# Altium schematic symbol library Reference_Voltage.SchLib: 259 symbols (part 2 of 3)
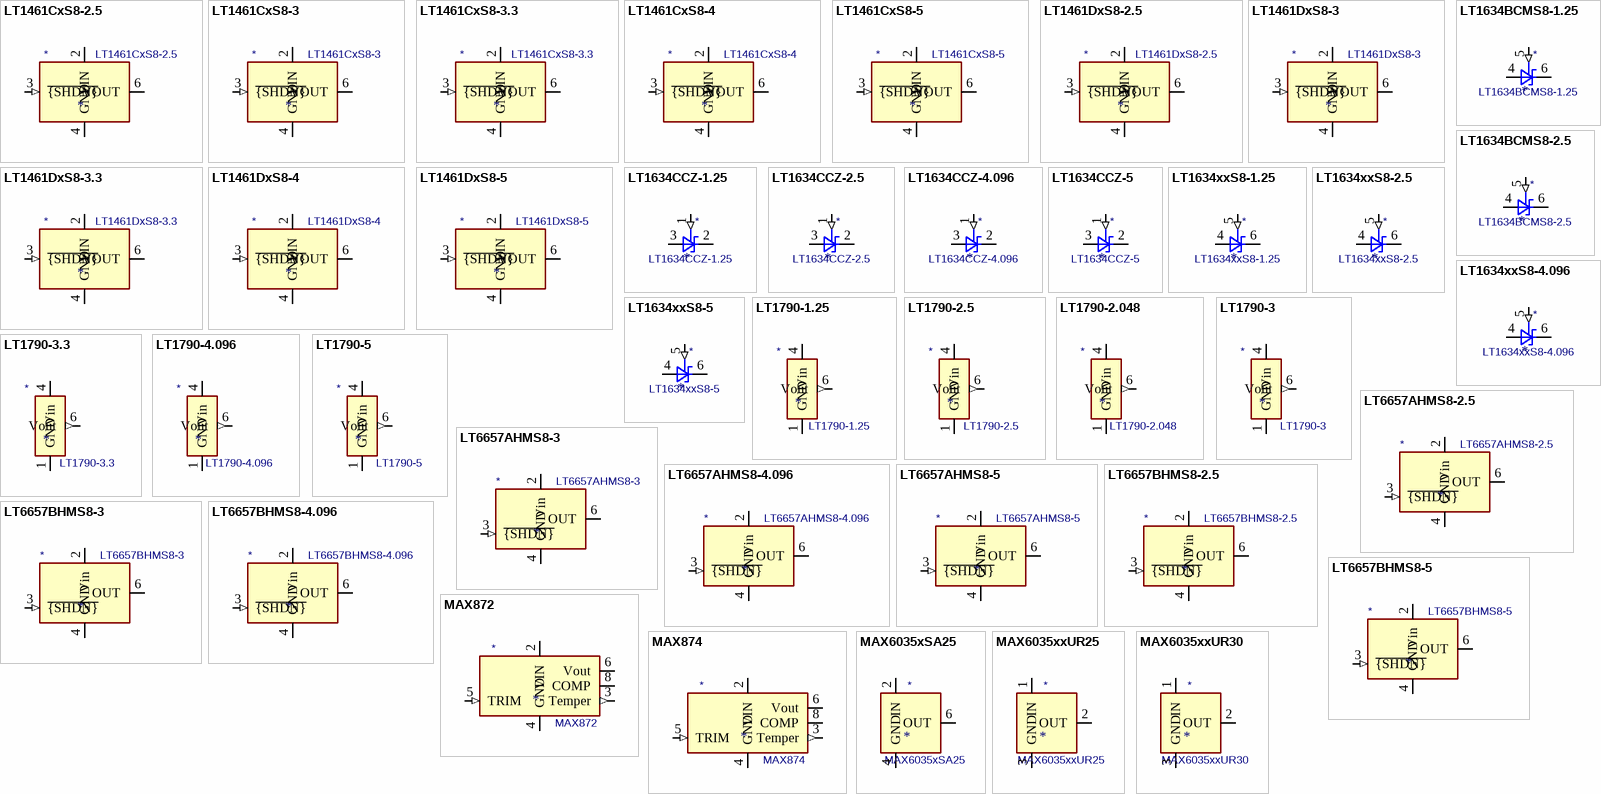
[diagram p7: symbols LT1461CxS8-2.5 to MAX6035xxUR30]

## MAX6035xSA25
designator *  value MAX6035xSA25
ki_keywords: vref; ki_description: 2.5V, High-Supply-Voltage, Precision Voltage Reference, SOIC-8; ki_fp_filters: SOIC*3.9x4.9mm*P1.27mm*; Footprint: Package_SO:SOIC-8_3.9x4.9mm_P1.27mm; Supplier: https://datasheets.maximintegrated.com/en/ds/MAX6035.pdf
footprint SOIC-8_3.9x4.9mm_P1.27mm
pins: 1 NC (in) hidden, 2 IN (power), 3 NC (in) hidden, 4 GND (power), 5 NC (in) hidden, 6 OUT (power), 7 NC (in) hidden, 8 NC (in) hidden

## MAX6035xxUR25
designator *  value MAX6035xxUR25
ki_keywords: vref; ki_description: 2.5V, High-Supply-Voltage, Precision Voltage Reference, SOT-23; ki_fp_filters: SOT?23*; Footprint: Package_TO_SOT_SMD:SOT-23; Supplier: https://datasheets.maximintegrated.com/en/ds/MAX6035.pdf
footprint SOT-23
pins: 1 IN (power), 2 OUT (power), 3 GND (power)

## MAX6035xxUR30
designator *  value MAX6035xxUR30
ki_keywords: vref; ki_description: 3V, High-Supply-Voltage, Precision Voltage Reference, SOT-23; ki_fp_filters: SOT?23*; Footprint: Package_TO_SOT_SMD:SOT-23; Supplier: https://datasheets.maximintegrated.com/en/ds/MAX6035.pdf
footprint SOT-23
pins: 1 IN (power), 2 OUT (power), 3 GND (power)

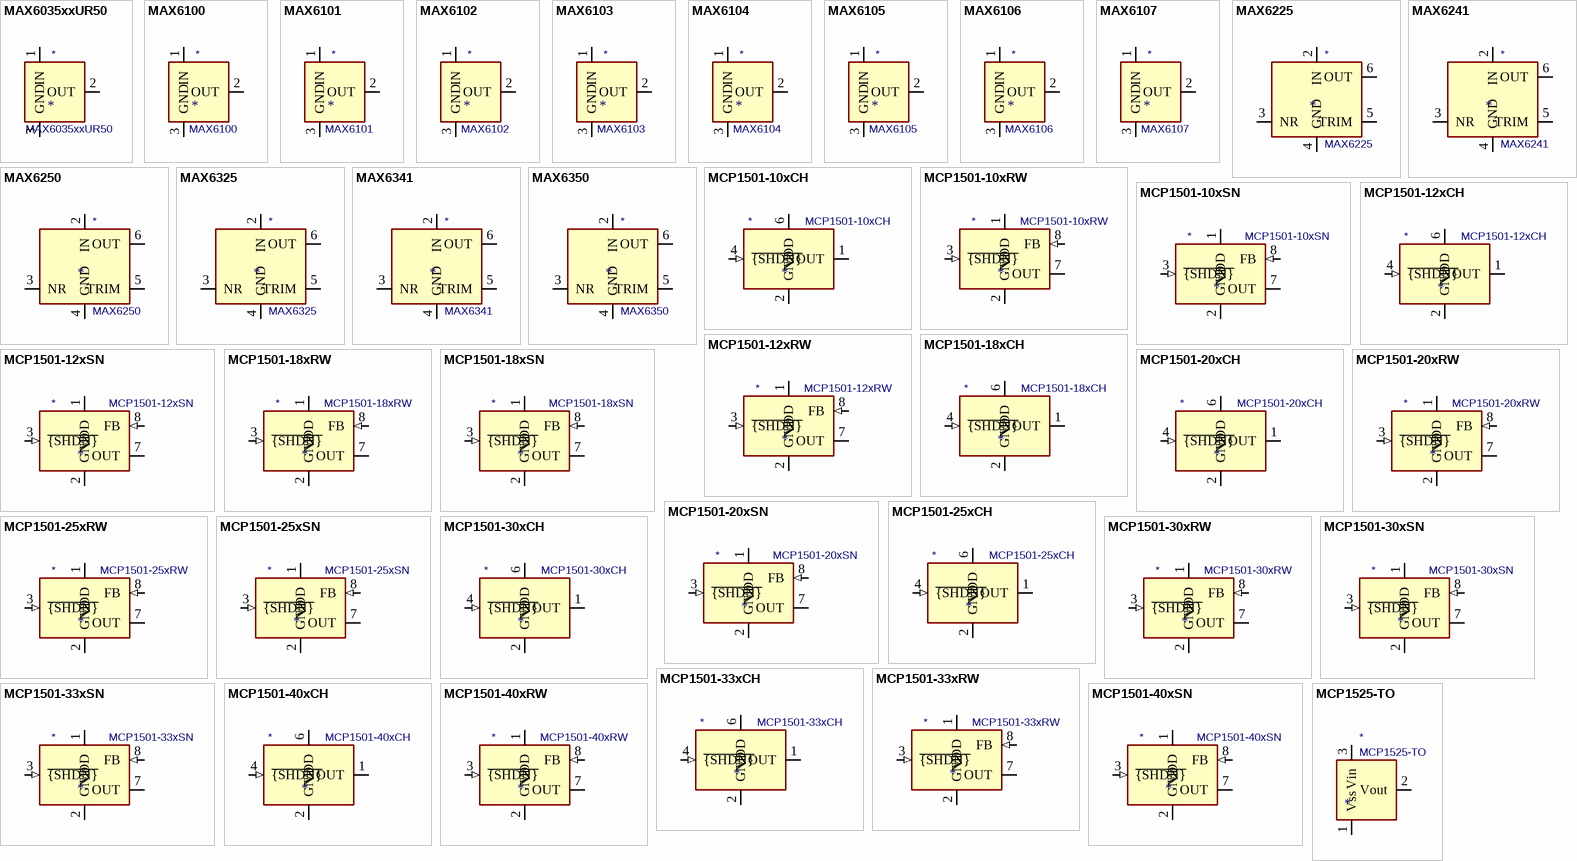
[diagram p3: symbols MAX6035xxUR50 to MCP1525-TO]

## MAX6035xxUR50
designator *  value MAX6035xxUR50
ki_keywords: vref; ki_description: 5V, High-Supply-Voltage, Precision Voltage Reference, SOT-23; ki_fp_filters: SOT?23*; Footprint: Package_TO_SOT_SMD:SOT-23; Supplier: https://datasheets.maximintegrated.com/en/ds/MAX6035.pdf
footprint SOT-23
pins: 1 IN (power), 2 OUT (power), 3 GND (power)

## MAX6100
designator *  value MAX6100
ki_keywords: voltage reference ldo; ki_description: Low-dropout high current voltage reference, 1.800V, ±0.4% accuracy, SOT-23; ki_fp_filters: SOT?23*; Footprint: Package_TO_SOT_SMD:SOT-23; Supplier: http://datasheets.maximintegrated.com/en/ds/MAX6100-MAX6107.pdf
footprint SOT-23
pins: 1 IN (power), 2 OUT (power), 3 GND (power)

## MAX6101
designator *  value MAX6101
ki_keywords: voltage reference ldo; ki_description: Low-dropout high current voltage reference, 1.250V, ±0.4% accuracy, SOT-23; ki_fp_filters: SOT?23*; Footprint: Package_TO_SOT_SMD:SOT-23; Supplier: http://datasheets.maximintegrated.com/en/ds/MAX6100-MAX6107.pdf
footprint SOT-23
pins: 1 IN (power), 2 OUT (power), 3 GND (power)

## MAX6102
designator *  value MAX6102
ki_keywords: voltage reference ldo; ki_description: Low-dropout high current voltage reference, 2.500V, ±0.4% accuracy, SOT-23; ki_fp_filters: SOT?23*; Footprint: Package_TO_SOT_SMD:SOT-23; Supplier: http://datasheets.maximintegrated.com/en/ds/MAX6100-MAX6107.pdf
footprint SOT-23
pins: 1 IN (power), 2 OUT (power), 3 GND (power)

## MAX6103
designator *  value MAX6103
ki_keywords: voltage reference ldo; ki_description: Low-dropout high current voltage reference, 3.000V, ±0.4% accuracy, SOT-23; ki_fp_filters: SOT?23*; Footprint: Package_TO_SOT_SMD:SOT-23; Supplier: http://datasheets.maximintegrated.com/en/ds/MAX6100-MAX6107.pdf
footprint SOT-23
pins: 1 IN (power), 2 OUT (power), 3 GND (power)

## MAX6104
designator *  value MAX6104
ki_keywords: voltage reference ldo; ki_description: Low-dropout high current voltage reference, 4.096V, ±0.4% accuracy, SOT-23; ki_fp_filters: SOT?23*; Footprint: Package_TO_SOT_SMD:SOT-23; Supplier: http://datasheets.maximintegrated.com/en/ds/MAX6100-MAX6107.pdf
footprint SOT-23
pins: 1 IN (power), 2 OUT (power), 3 GND (power)

## MAX6105
designator *  value MAX6105
ki_keywords: voltage reference ldo; ki_description: Low-dropout high current voltage reference, 5.000V, ±0.4% accuracy, SOT-23; ki_fp_filters: SOT?23*; Footprint: Package_TO_SOT_SMD:SOT-23; Supplier: http://datasheets.maximintegrated.com/en/ds/MAX6100-MAX6107.pdf
footprint SOT-23
pins: 1 IN (power), 2 OUT (power), 3 GND (power)

## MAX6106
designator *  value MAX6106
ki_keywords: voltage reference ldo; ki_description: Low-dropout high current voltage reference, 2.048V, ±0.4% accuracy, SOT-23; ki_fp_filters: SOT?23*; Footprint: Package_TO_SOT_SMD:SOT-23; Supplier: http://datasheets.maximintegrated.com/en/ds/MAX6100-MAX6107.pdf
footprint SOT-23
pins: 1 IN (power), 2 OUT (power), 3 GND (power)

## MAX6107
designator *  value MAX6107
ki_keywords: voltage reference ldo; ki_description: Low-dropout high current voltage reference, 4.500V, ±0.4% accuracy, SOT-23; ki_fp_filters: SOT?23*; Footprint: Package_TO_SOT_SMD:SOT-23; Supplier: http://datasheets.maximintegrated.com/en/ds/MAX6100-MAX6107.pdf
footprint SOT-23
pins: 1 IN (power), 2 OUT (power), 3 GND (power)

## MAX6225
designator *  value MAX6225
ki_keywords: precision voltage reference; ki_description: 1ppm/°C Low-Noise Precision +2.5V Voltage Reference, SO-8/DIP-8; ki_fp_filters: SOIC*P1.27mm* DIP*W7.62mm*; Supplier: http://datasheets.maximintegrated.com/en/ds/MAX6225-MAX6250.pdf
pins: 1 NC (in) hidden, 2 IN (power), 3 NR, 4 GND (power), 5 TRIM, 6 OUT (power), 7 NC (in) hidden, 8 NC (in) hidden

## MAX6241
designator *  value MAX6241
ki_keywords: precision voltage reference; ki_description: 1ppm/°C Low-Noise Precision +4.096V Voltage Reference, SO-8/DIP-8; ki_fp_filters: SOIC*P1.27mm* DIP*W7.62mm*; Supplier: http://datasheets.maximintegrated.com/en/ds/MAX6225-MAX6250.pdf
pins: 1 NC (in) hidden, 2 IN (power), 3 NR, 4 GND (power), 5 TRIM, 6 OUT (power), 7 NC (in) hidden, 8 NC (in) hidden

## MAX6250
designator *  value MAX6250
ki_keywords: precision voltage reference; ki_description: 1ppm/°C Low-Noise Precision +5V Voltage Reference, SO-8/DIP-8; ki_fp_filters: SOIC*P1.27mm* DIP*W7.62mm*; Supplier: http://datasheets.maximintegrated.com/en/ds/MAX6225-MAX6250.pdf
pins: 1 NC (in) hidden, 2 IN (power), 3 NR, 4 GND (power), 5 TRIM, 6 OUT (power), 7 NC (in) hidden, 8 NC (in) hidden

## MAX6325
designator *  value MAX6325
ki_keywords: precision voltage reference; ki_description: 0.5ppm/°C Low-Noise +2.5V Voltage Reference, SO-8/DIP-8; ki_fp_filters: SOIC*P1.27mm* DIP*W7.62mm*; Supplier: http://datasheets.maximintegrated.com/en/ds/MAX6325-MAX6350.pdf
pins: 1 NC (in) hidden, 2 IN (power), 3 NR, 4 GND (power), 5 TRIM, 6 OUT (power), 7 NC (in) hidden, 8 NC (in) hidden

## MAX6341
designator *  value MAX6341
ki_keywords: precision voltage reference; ki_description: 0.5ppm/°C Low-Noise +4.096V Voltage Reference, SO-8/DIP-8; ki_fp_filters: SOIC*P1.27mm* DIP*W7.62mm*; Supplier: http://datasheets.maximintegrated.com/en/ds/MAX6325-MAX6350.pdf
pins: 1 NC (in) hidden, 2 IN (power), 3 NR, 4 GND (power), 5 TRIM, 6 OUT (power), 7 NC (in) hidden, 8 NC (in) hidden

## MAX6350
designator *  value MAX6350
ki_keywords: precision voltage reference; ki_description: 0.5ppm/°C Low-Noise +5V Voltage Reference, SO-8/DIP-8; ki_fp_filters: SOIC*P1.27mm* DIP*W7.62mm*; Supplier: http://datasheets.maximintegrated.com/en/ds/MAX6325-MAX6350.pdf
pins: 1 NC (in) hidden, 2 IN (power), 3 NR, 4 GND (power), 5 TRIM, 6 OUT (power), 7 NC (in) hidden, 8 NC (in) hidden

## MCP1501-10xCH
designator *  value MCP1501-10xCH
ki_keywords: precision buffered voltage reference 1.024V; ki_description: 1.024V, 0.1%, 20mA, Precision Voltage Reference, SOT-23-6; ki_fp_filters: SOT?23*; Footprint: Package_TO_SOT_SMD:SOT-23-6; Supplier: http://ww1.microchip.com/downloads/en/DeviceDoc/20005474E.pdf
footprint SOT-23-6
pins: 1 OUT (power), 2 GND (power), 3 GND hidden, 4 ~{{SHDN}} (in), 5 GND hidden, 6 VDD (power)

## MCP1501-10xRW
designator *  value MCP1501-10xRW
ki_keywords: precision buffered voltage reference 1.024V; ki_description: 1.024V, 0.1%, 20mA, Precision Voltage Reference, WDFN-8; ki_fp_filters: WDFN*1EP*2x2mm*P0.5mm*; Footprint: Package_DFN_QFN:WDFN-8-1EP_2x2mm_P0.5mm_EP0.8x1.2mm; Supplier: http://ww1.microchip.com/downloads/en/DeviceDoc/20005474E.pdf
footprint WDFN-8-1EP_2x2mm_P0.5mm_EP0.8x1.2mm
pins: 1 VDD (power), 2 GND (power), 3 ~{{SHDN}} (in), 4 GND hidden, 5 GND hidden, 6 GND hidden, 7 OUT (power), 8 FB (in)

## MCP1501-10xSN
designator *  value MCP1501-10xSN
ki_keywords: precision buffered voltage reference 1.024V; ki_description: 1.024V, 0.1%, 20mA, Precision Voltage Reference, SOIC-8; ki_fp_filters: SOIC*3.9x4.9mm*P1.27mm*; Footprint: Package_SO:SOIC-8_3.9x4.9mm_P1.27mm; Supplier: http://ww1.microchip.com/downloads/en/DeviceDoc/20005474E.pdf
footprint SOIC-8_3.9x4.9mm_P1.27mm
pins: 1 VDD (power), 2 GND (power), 3 ~{{SHDN}} (in), 4 GND hidden, 5 GND hidden, 6 GND hidden, 7 OUT (power), 8 FB (in)

## MCP1501-12xCH
designator *  value MCP1501-12xCH
ki_keywords: precision buffered voltage reference 1.25V; ki_description: 1.25V, 0.1%, 20mA, Precision Voltage Reference, SOT-23-6; ki_fp_filters: SOT?23*; Footprint: Package_TO_SOT_SMD:SOT-23-6; Supplier: http://ww1.microchip.com/downloads/en/DeviceDoc/20005474E.pdf
footprint SOT-23-6
pins: 1 OUT (power), 2 GND (power), 3 GND hidden, 4 ~{{SHDN}} (in), 5 GND hidden, 6 VDD (power)

## MCP1501-12xRW
designator *  value MCP1501-12xRW
ki_keywords: precision buffered voltage reference 1.25V; ki_description: 1.25V, 0.1%, 20mA, Precision Voltage Reference, WDFN-8; ki_fp_filters: WDFN*1EP*2x2mm*P0.5mm*; Footprint: Package_DFN_QFN:WDFN-8-1EP_2x2mm_P0.5mm_EP0.8x1.2mm; Supplier: http://ww1.microchip.com/downloads/en/DeviceDoc/20005474E.pdf
footprint WDFN-8-1EP_2x2mm_P0.5mm_EP0.8x1.2mm
pins: 1 VDD (power), 2 GND (power), 3 ~{{SHDN}} (in), 4 GND hidden, 5 GND hidden, 6 GND hidden, 7 OUT (power), 8 FB (in)

## MCP1501-12xSN
designator *  value MCP1501-12xSN
ki_keywords: precision buffered voltage reference 1.25V; ki_description: 1.25V, 0.1%, 20mA, Precision Voltage Reference, SOIC-8; ki_fp_filters: SOIC*3.9x4.9mm*P1.27mm*; Footprint: Package_SO:SOIC-8_3.9x4.9mm_P1.27mm; Supplier: http://ww1.microchip.com/downloads/en/DeviceDoc/20005474E.pdf
footprint SOIC-8_3.9x4.9mm_P1.27mm
pins: 1 VDD (power), 2 GND (power), 3 ~{{SHDN}} (in), 4 GND hidden, 5 GND hidden, 6 GND hidden, 7 OUT (power), 8 FB (in)

## MCP1501-18xCH
designator *  value MCP1501-18xCH
ki_keywords: precision buffered voltage reference 1.8V; ki_description: 1.8V, 0.1%, 20mA, Precision Voltage Reference, SOT-23-6; ki_fp_filters: SOT?23*; Footprint: Package_TO_SOT_SMD:SOT-23-6; Supplier: http://ww1.microchip.com/downloads/en/DeviceDoc/20005474E.pdf
footprint SOT-23-6
pins: 1 OUT (power), 2 GND (power), 3 GND hidden, 4 ~{{SHDN}} (in), 5 GND hidden, 6 VDD (power)

## MCP1501-18xRW
designator *  value MCP1501-18xRW
ki_keywords: precision buffered voltage reference 1.8V; ki_description: 1.8V, 0.1%, 20mA, Precision Voltage Reference, WDFN-8; ki_fp_filters: WDFN*1EP*2x2mm*P0.5mm*; Footprint: Package_DFN_QFN:WDFN-8-1EP_2x2mm_P0.5mm_EP0.8x1.2mm; Supplier: http://ww1.microchip.com/downloads/en/DeviceDoc/20005474E.pdf
footprint WDFN-8-1EP_2x2mm_P0.5mm_EP0.8x1.2mm
pins: 1 VDD (power), 2 GND (power), 3 ~{{SHDN}} (in), 4 GND hidden, 5 GND hidden, 6 GND hidden, 7 OUT (power), 8 FB (in)

## MCP1501-18xSN
designator *  value MCP1501-18xSN
ki_keywords: precision buffered voltage reference 1.8V; ki_description: 1.8V, 0.1%, 20mA, Precision Voltage Reference, SOIC-8; ki_fp_filters: SOIC*3.9x4.9mm*P1.27mm*; Footprint: Package_SO:SOIC-8_3.9x4.9mm_P1.27mm; Supplier: http://ww1.microchip.com/downloads/en/DeviceDoc/20005474E.pdf
footprint SOIC-8_3.9x4.9mm_P1.27mm
pins: 1 VDD (power), 2 GND (power), 3 ~{{SHDN}} (in), 4 GND hidden, 5 GND hidden, 6 GND hidden, 7 OUT (power), 8 FB (in)

## MCP1501-20xCH
designator *  value MCP1501-20xCH
ki_keywords: precision buffered voltage reference 2.048V; ki_description: 2.048V, 0.1%, 20mA, Precision Voltage Reference, SOT-23-6; ki_fp_filters: SOT?23*; Footprint: Package_TO_SOT_SMD:SOT-23-6; Supplier: http://ww1.microchip.com/downloads/en/DeviceDoc/20005474E.pdf
footprint SOT-23-6
pins: 1 OUT (power), 2 GND (power), 3 GND hidden, 4 ~{{SHDN}} (in), 5 GND hidden, 6 VDD (power)

## MCP1501-20xRW
designator *  value MCP1501-20xRW
ki_keywords: precision buffered voltage reference 2.048V; ki_description: 2.048V, 0.1%, 20mA, Precision Voltage Reference, WDFN-8; ki_fp_filters: WDFN*1EP*2x2mm*P0.5mm*; Footprint: Package_DFN_QFN:WDFN-8-1EP_2x2mm_P0.5mm_EP0.8x1.2mm; Supplier: http://ww1.microchip.com/downloads/en/DeviceDoc/20005474E.pdf
footprint WDFN-8-1EP_2x2mm_P0.5mm_EP0.8x1.2mm
pins: 1 VDD (power), 2 GND (power), 3 ~{{SHDN}} (in), 4 GND hidden, 5 GND hidden, 6 GND hidden, 7 OUT (power), 8 FB (in)

## MCP1501-20xSN
designator *  value MCP1501-20xSN
ki_keywords: precision buffered voltage reference 2.048V; ki_description: 2.048V, 0.1%, 20mA, Precision Voltage Reference, SOIC-8; ki_fp_filters: SOIC*3.9x4.9mm*P1.27mm*; Footprint: Package_SO:SOIC-8_3.9x4.9mm_P1.27mm; Supplier: http://ww1.microchip.com/downloads/en/DeviceDoc/20005474E.pdf
footprint SOIC-8_3.9x4.9mm_P1.27mm
pins: 1 VDD (power), 2 GND (power), 3 ~{{SHDN}} (in), 4 GND hidden, 5 GND hidden, 6 GND hidden, 7 OUT (power), 8 FB (in)

## MCP1501-25xCH
designator *  value MCP1501-25xCH
ki_keywords: precision buffered voltage reference 2.5V; ki_description: 2.5V, 0.1%, 20mA, Precision Voltage Reference, SOT-23-6; ki_fp_filters: SOT?23*; Footprint: Package_TO_SOT_SMD:SOT-23-6; Supplier: http://ww1.microchip.com/downloads/en/DeviceDoc/20005474E.pdf
footprint SOT-23-6
pins: 1 OUT (power), 2 GND (power), 3 GND hidden, 4 ~{{SHDN}} (in), 5 GND hidden, 6 VDD (power)

## MCP1501-25xRW
designator *  value MCP1501-25xRW
ki_keywords: precision buffered voltage reference 2.5V; ki_description: 2.5V, 0.1%, 20mA, Precision Voltage Reference, WDFN-8; ki_fp_filters: WDFN*1EP*2x2mm*P0.5mm*; Footprint: Package_DFN_QFN:WDFN-8-1EP_2x2mm_P0.5mm_EP0.8x1.2mm; Supplier: http://ww1.microchip.com/downloads/en/DeviceDoc/20005474E.pdf
footprint WDFN-8-1EP_2x2mm_P0.5mm_EP0.8x1.2mm
pins: 1 VDD (power), 2 GND (power), 3 ~{{SHDN}} (in), 4 GND hidden, 5 GND hidden, 6 GND hidden, 7 OUT (power), 8 FB (in)

## MCP1501-25xSN
designator *  value MCP1501-25xSN
ki_keywords: precision buffered voltage reference 2.5V; ki_description: 2.5V, 0.1%, 20mA, Precision Voltage Reference, SOIC-8; ki_fp_filters: SOIC*3.9x4.9mm*P1.27mm*; Footprint: Package_SO:SOIC-8_3.9x4.9mm_P1.27mm; Supplier: http://ww1.microchip.com/downloads/en/DeviceDoc/20005474E.pdf
footprint SOIC-8_3.9x4.9mm_P1.27mm
pins: 1 VDD (power), 2 GND (power), 3 ~{{SHDN}} (in), 4 GND hidden, 5 GND hidden, 6 GND hidden, 7 OUT (power), 8 FB (in)

## MCP1501-30xCH
designator *  value MCP1501-30xCH
ki_keywords: precision buffered voltage reference 3V; ki_description: 3V, 0.1%, 20mA, Precision Voltage Reference, SOT-23-6; ki_fp_filters: SOT?23*; Footprint: Package_TO_SOT_SMD:SOT-23-6; Supplier: http://ww1.microchip.com/downloads/en/DeviceDoc/20005474E.pdf
footprint SOT-23-6
pins: 1 OUT (power), 2 GND (power), 3 GND hidden, 4 ~{{SHDN}} (in), 5 GND hidden, 6 VDD (power)

## MCP1501-30xRW
designator *  value MCP1501-30xRW
ki_keywords: precision buffered voltage reference 3V; ki_description: 3V, 0.1%, 20mA, Precision Voltage Reference, WDFN-8; ki_fp_filters: WDFN*1EP*2x2mm*P0.5mm*; Footprint: Package_DFN_QFN:WDFN-8-1EP_2x2mm_P0.5mm_EP0.8x1.2mm; Supplier: http://ww1.microchip.com/downloads/en/DeviceDoc/20005474E.pdf
footprint WDFN-8-1EP_2x2mm_P0.5mm_EP0.8x1.2mm
pins: 1 VDD (power), 2 GND (power), 3 ~{{SHDN}} (in), 4 GND hidden, 5 GND hidden, 6 GND hidden, 7 OUT (power), 8 FB (in)

## MCP1501-30xSN
designator *  value MCP1501-30xSN
ki_keywords: precision buffered voltage reference 3V; ki_description: 3V, 0.1%, 20mA, Precision Voltage Reference, SOIC-8; ki_fp_filters: SOIC*3.9x4.9mm*P1.27mm*; Footprint: Package_SO:SOIC-8_3.9x4.9mm_P1.27mm; Supplier: http://ww1.microchip.com/downloads/en/DeviceDoc/20005474E.pdf
footprint SOIC-8_3.9x4.9mm_P1.27mm
pins: 1 VDD (power), 2 GND (power), 3 ~{{SHDN}} (in), 4 GND hidden, 5 GND hidden, 6 GND hidden, 7 OUT (power), 8 FB (in)

## MCP1501-33xCH
designator *  value MCP1501-33xCH
ki_keywords: precision buffered voltage reference 3.3V; ki_description: 3.3V, 0.1%, 20mA, Precision Voltage Reference, SOT-23-6; ki_fp_filters: SOT?23*; Footprint: Package_TO_SOT_SMD:SOT-23-6; Supplier: http://ww1.microchip.com/downloads/en/DeviceDoc/20005474E.pdf
footprint SOT-23-6
pins: 1 OUT (power), 2 GND (power), 3 GND hidden, 4 ~{{SHDN}} (in), 5 GND hidden, 6 VDD (power)

## MCP1501-33xRW
designator *  value MCP1501-33xRW
ki_keywords: precision buffered voltage reference 3.3V; ki_description: 3.3V, 0.1%, 20mA, Precision Voltage Reference, WDFN-8; ki_fp_filters: WDFN*1EP*2x2mm*P0.5mm*; Footprint: Package_DFN_QFN:WDFN-8-1EP_2x2mm_P0.5mm_EP0.8x1.2mm; Supplier: http://ww1.microchip.com/downloads/en/DeviceDoc/20005474E.pdf
footprint WDFN-8-1EP_2x2mm_P0.5mm_EP0.8x1.2mm
pins: 1 VDD (power), 2 GND (power), 3 ~{{SHDN}} (in), 4 GND hidden, 5 GND hidden, 6 GND hidden, 7 OUT (power), 8 FB (in)

## MCP1501-33xSN
designator *  value MCP1501-33xSN
ki_keywords: precision buffered voltage reference 3.3V; ki_description: 3.3V, 0.1%, 20mA, Precision Voltage Reference, SOIC-8; ki_fp_filters: SOIC*3.9x4.9mm*P1.27mm*; Footprint: Package_SO:SOIC-8_3.9x4.9mm_P1.27mm; Supplier: http://ww1.microchip.com/downloads/en/DeviceDoc/20005474E.pdf
footprint SOIC-8_3.9x4.9mm_P1.27mm
pins: 1 VDD (power), 2 GND (power), 3 ~{{SHDN}} (in), 4 GND hidden, 5 GND hidden, 6 GND hidden, 7 OUT (power), 8 FB (in)

## MCP1501-40xCH
designator *  value MCP1501-40xCH
ki_keywords: precision buffered voltage reference 4.096V; ki_description: 4.096V, 0.1%, 20mA, Precision Voltage Reference, SOT-23-6; ki_fp_filters: SOT?23*; Footprint: Package_TO_SOT_SMD:SOT-23-6; Supplier: http://ww1.microchip.com/downloads/en/DeviceDoc/20005474E.pdf
footprint SOT-23-6
pins: 1 OUT (power), 2 GND (power), 3 GND hidden, 4 ~{{SHDN}} (in), 5 GND hidden, 6 VDD (power)

## MCP1501-40xRW
designator *  value MCP1501-40xRW
ki_keywords: precision buffered voltage reference 4.096V; ki_description: 4.096V, 0.1%, 20mA, Precision Voltage Reference, WDFN-8; ki_fp_filters: WDFN*1EP*2x2mm*P0.5mm*; Footprint: Package_DFN_QFN:WDFN-8-1EP_2x2mm_P0.5mm_EP0.8x1.2mm; Supplier: http://ww1.microchip.com/downloads/en/DeviceDoc/20005474E.pdf
footprint WDFN-8-1EP_2x2mm_P0.5mm_EP0.8x1.2mm
pins: 1 VDD (power), 2 GND (power), 3 ~{{SHDN}} (in), 4 GND hidden, 5 GND hidden, 6 GND hidden, 7 OUT (power), 8 FB (in)

## MCP1501-40xSN
designator *  value MCP1501-40xSN
ki_keywords: precision buffered voltage reference 4.096V; ki_description: 4.096V, 0.1%, 20mA, Precision Voltage Reference, SOIC-8; ki_fp_filters: SOIC*3.9x4.9mm*P1.27mm*; Footprint: Package_SO:SOIC-8_3.9x4.9mm_P1.27mm; Supplier: http://ww1.microchip.com/downloads/en/DeviceDoc/20005474E.pdf
footprint SOIC-8_3.9x4.9mm_P1.27mm
pins: 1 VDD (power), 2 GND (power), 3 ~{{SHDN}} (in), 4 GND hidden, 5 GND hidden, 6 GND hidden, 7 OUT (power), 8 FB (in)

## MCP1525-TO
designator *  value MCP1525-TO
ki_keywords: Voltage Reference 2.5V; ki_description: 2.5V Voltage Reference, TO-92; ki_fp_filters: TO*92*; Footprint: Package_TO_SOT_THT:TO-92_Inline; Supplier: http://ww1.microchip.com/downloads/en/devicedoc/21653b.pdf
footprint TO-92_Inline
pins: 1 Vss (power), 2 Vout (power), 3 Vin (power)

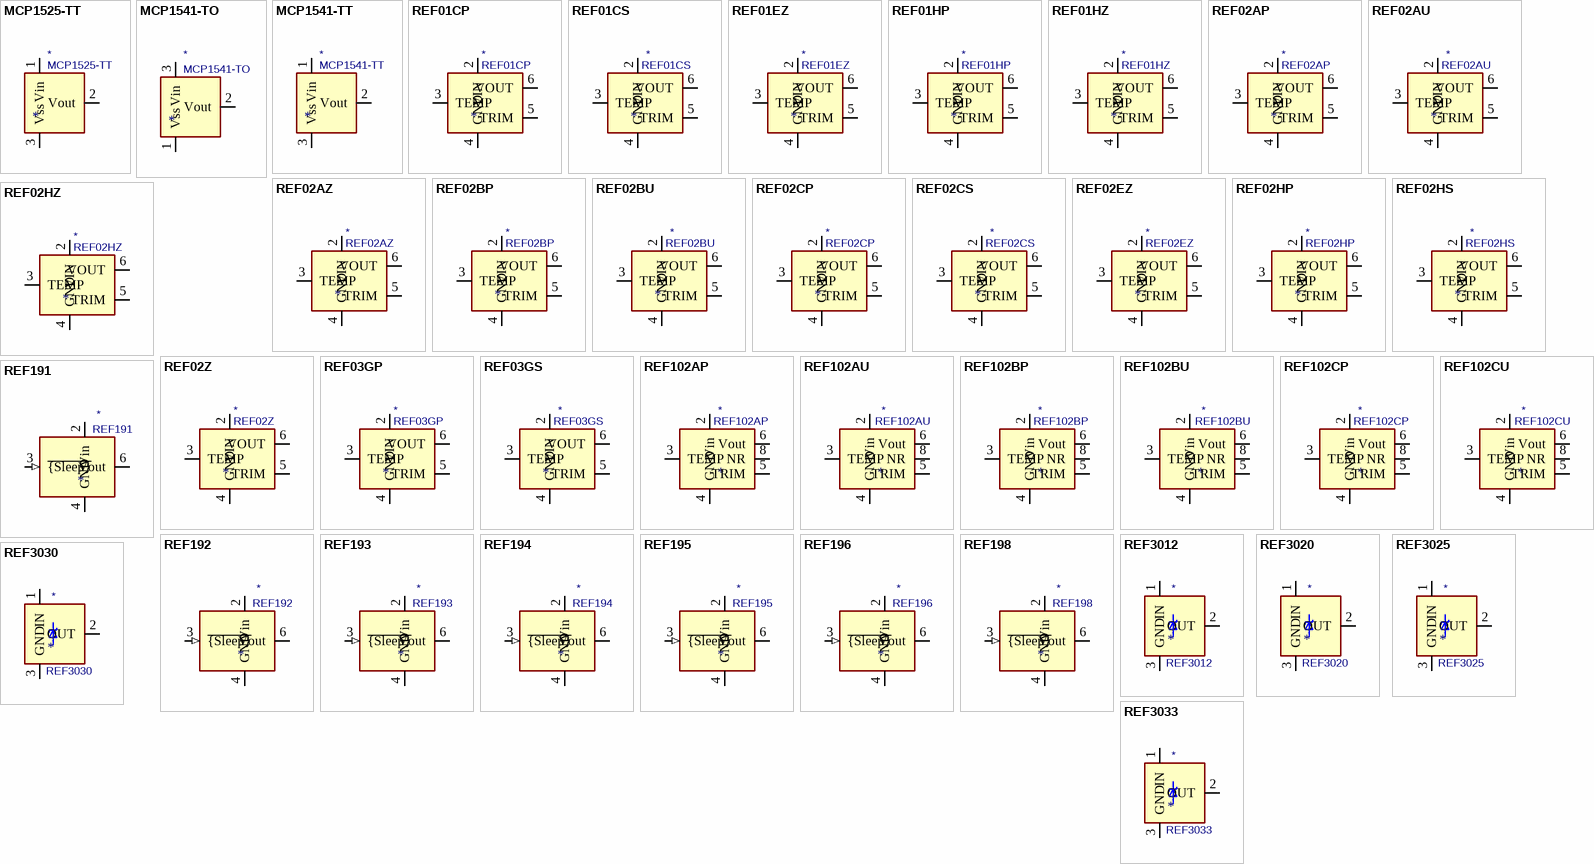
[diagram p4: symbols MCP1525-TT to REF3033]

## MCP1525-TT
designator *  value MCP1525-TT
ki_keywords: Voltage Reference 2.5V; ki_description: 2.5V Voltage Reference, SOT-23; ki_fp_filters: SOT?23*; Footprint: Package_TO_SOT_SMD:SOT-23; Supplier: http://ww1.microchip.com/downloads/en/devicedoc/21653b.pdf
footprint SOT-23
pins: 1 Vin (power), 2 Vout (power), 3 Vss (power)

## MCP1541-TO
designator *  value MCP1541-TO
ki_keywords: Voltage Reference 4.096V; ki_description: 4.096V Voltage Reference, TO-92; ki_fp_filters: TO*92*; Footprint: Package_TO_SOT_THT:TO-92_Inline; Supplier: http://ww1.microchip.com/downloads/en/devicedoc/21653b.pdf
footprint TO-92_Inline
pins: 1 Vss (power), 2 Vout (power), 3 Vin (power)

## MCP1541-TT
designator *  value MCP1541-TT
ki_keywords: Voltage Reference 4.096V; ki_description: 4.096V Voltage Reference, SOT-23; ki_fp_filters: SOT?23*; Footprint: Package_TO_SOT_SMD:SOT-23; Supplier: http://ww1.microchip.com/downloads/en/devicedoc/21653b.pdf
footprint SOT-23
pins: 1 Vin (power), 2 Vout (power), 3 Vss (power)

## REF01CP
designator *  value REF01CP
ki_keywords: Precision Voltage Reference 10V; ki_description: 10V ±100mV Precision Voltage Reference, PDIP-8; ki_fp_filters: DIP*W7.62mm*; Footprint: Package_DIP:DIP-8_W7.62mm; Supplier: https://www.analog.com/media/en/technical-documentation/data-sheets/REF01_02_03.pdf
footprint DIP-8_W7.62mm
pins: 1 NC (in) hidden, 2 VIN (power), 3 TEMP, 4 GND (power), 5 TRIM, 6 VOUT (power), 7 NC (in) hidden, 8 NC (in) hidden

## REF01CS
designator *  value REF01CS
ki_keywords: Precision Voltage Reference 10V; ki_description: 10V ±100mV Precision Voltage Reference, SO-8; ki_fp_filters: SOIC*3.9x4.9mm*P1.27mm*; Footprint: Package_SO:SOIC-8_3.9x4.9mm_P1.27mm; Supplier: https://www.analog.com/media/en/technical-documentation/data-sheets/REF01_02_03.pdf
footprint SOIC-8_3.9x4.9mm_P1.27mm
pins: 1 NC (in) hidden, 2 VIN (power), 3 TEMP, 4 GND (power), 5 TRIM, 6 VOUT (power), 7 NC (in) hidden, 8 NC (in) hidden

## REF01EZ
designator *  value REF01EZ
ki_keywords: Precision Voltage Reference 10V; ki_description: 10V ±30mV Precision Voltage Reference, CERDIP-8; ki_fp_filters: DIP*W7.62mm*; Footprint: Package_DIP:DIP-8_W7.62mm; Supplier: https://www.analog.com/media/en/technical-documentation/data-sheets/REF01_02_03.pdf
footprint DIP-8_W7.62mm
pins: 1 NC (in) hidden, 2 VIN (power), 3 TEMP, 4 GND (power), 5 TRIM, 6 VOUT (power), 7 NC (in) hidden, 8 NC (in) hidden

## REF01HP
designator *  value REF01HP
ki_keywords: Precision Voltage Reference 10V; ki_description: 10V ±50mV Precision Voltage Reference, PDIP-8; ki_fp_filters: DIP*W7.62mm*; Footprint: Package_DIP:DIP-8_W7.62mm; Supplier: https://www.analog.com/media/en/technical-documentation/data-sheets/REF01_02_03.pdf
footprint DIP-8_W7.62mm
pins: 1 NC (in) hidden, 2 VIN (power), 3 TEMP, 4 GND (power), 5 TRIM, 6 VOUT (power), 7 NC (in) hidden, 8 NC (in) hidden

## REF01HZ
designator *  value REF01HZ
ki_keywords: Precision Voltage Reference 10V; ki_description: 10V ±50mV Precision Voltage Reference, CERDIP-8; ki_fp_filters: DIP*W7.62mm*; Footprint: Package_DIP:DIP-8_W7.62mm; Supplier: https://www.analog.com/media/en/technical-documentation/data-sheets/REF01_02_03.pdf
footprint DIP-8_W7.62mm
pins: 1 NC (in) hidden, 2 VIN (power), 3 TEMP, 4 GND (power), 5 TRIM, 6 VOUT (power), 7 NC (in) hidden, 8 NC (in) hidden

## REF02AP
designator *  value REF02AP
ki_keywords: Precision Voltage Reference 5V; ki_description: 5V ±15mV Precision Voltage Reference, PDIP-8; ki_fp_filters: DIP*W7.62mm*; Footprint: Package_DIP:DIP-8_W7.62mm; Supplier: http://www.ti.com/lit/ds/symlink/ref02.pdf
footprint DIP-8_W7.62mm
pins: 1 NC (in) hidden, 2 VIN (power), 3 TEMP, 4 GND (power), 5 TRIM, 6 VOUT (power), 7 NC (in) hidden, 8 NC (in) hidden

## REF02AU
designator *  value REF02AU
ki_keywords: Precision Voltage Reference 5V; ki_description: 5V ±15mV Precision Voltage Reference, SO-8; ki_fp_filters: SOIC*3.9x4.9mm*P1.27mm*; Footprint: Package_SO:SOIC-8_3.9x4.9mm_P1.27mm; Supplier: http://www.ti.com/lit/ds/symlink/ref02.pdf
footprint SOIC-8_3.9x4.9mm_P1.27mm
pins: 1 NC (in) hidden, 2 VIN (power), 3 TEMP, 4 GND (power), 5 TRIM, 6 VOUT (power), 7 NC (in) hidden, 8 NC (in) hidden

## REF02AZ
designator *  value REF02AZ
ki_keywords: Precision Voltage Reference 5V; ki_description: 5V ±15mV Precision Voltage Reference, CERDIP-8; ki_fp_filters: DIP*W7.62mm*; Footprint: Package_DIP:DIP-8_W7.62mm; Supplier: https://www.analog.com/media/en/technical-documentation/data-sheets/REF01_02_03.pdf
footprint DIP-8_W7.62mm
pins: 1 NC (in) hidden, 2 VIN (power), 3 TEMP, 4 GND (power), 5 TRIM, 6 VOUT (power), 7 NC (in) hidden, 8 NC (in) hidden

## REF02BP
designator *  value REF02BP
ki_keywords: Precision Voltage Reference 5V; ki_description: 5V ±10mV Precision Voltage Reference, PDIP-8; ki_fp_filters: DIP*W7.62mm*; Footprint: Package_DIP:DIP-8_W7.62mm; Supplier: http://www.ti.com/lit/ds/symlink/ref02.pdf
footprint DIP-8_W7.62mm
pins: 1 NC (in) hidden, 2 VIN (power), 3 TEMP, 4 GND (power), 5 TRIM, 6 VOUT (power), 7 NC (in) hidden, 8 NC (in) hidden

## REF02BU
designator *  value REF02BU
ki_keywords: Precision Voltage Reference 5V; ki_description: 5V ±10mV Precision Voltage Reference, SO-8; ki_fp_filters: SOIC*3.9x4.9mm*P1.27mm*; Footprint: Package_SO:SOIC-8_3.9x4.9mm_P1.27mm; Supplier: http://www.ti.com/lit/ds/symlink/ref02.pdf
footprint SOIC-8_3.9x4.9mm_P1.27mm
pins: 1 NC (in) hidden, 2 VIN (power), 3 TEMP, 4 GND (power), 5 TRIM, 6 VOUT (power), 7 NC (in) hidden, 8 NC (in) hidden

## REF02CP
designator *  value REF02CP
ki_keywords: Precision Voltage Reference 5V; ki_description: 5V ±50mV Precision Voltage Reference, PDIP-8; ki_fp_filters: DIP*W7.62mm*; Footprint: Package_DIP:DIP-8_W7.62mm; Supplier: https://www.analog.com/media/en/technical-documentation/data-sheets/REF01_02_03.pdf
footprint DIP-8_W7.62mm
pins: 1 NC (in) hidden, 2 VIN (power), 3 TEMP, 4 GND (power), 5 TRIM, 6 VOUT (power), 7 NC (in) hidden, 8 NC (in) hidden

## REF02CS
designator *  value REF02CS
ki_keywords: Precision Voltage Reference 5V; ki_description: 5V ±50mV Precision Voltage Reference, SO-8; ki_fp_filters: SOIC*3.9x4.9mm*P1.27mm*; Footprint: Package_SO:SOIC-8_3.9x4.9mm_P1.27mm; Supplier: https://www.analog.com/media/en/technical-documentation/data-sheets/REF01_02_03.pdf
footprint SOIC-8_3.9x4.9mm_P1.27mm
pins: 1 NC (in) hidden, 2 VIN (power), 3 TEMP, 4 GND (power), 5 TRIM, 6 VOUT (power), 7 NC (in) hidden, 8 NC (in) hidden

## REF02EZ
designator *  value REF02EZ
ki_keywords: Precision Voltage Reference 5V; ki_description: 5V ±15mV Precision Voltage Reference, CERDIP-8; ki_fp_filters: DIP*W7.62mm*; Footprint: Package_DIP:DIP-8_W7.62mm; Supplier: https://www.analog.com/media/en/technical-documentation/data-sheets/REF01_02_03.pdf
footprint DIP-8_W7.62mm
pins: 1 NC (in) hidden, 2 VIN (power), 3 TEMP, 4 GND (power), 5 TRIM, 6 VOUT (power), 7 NC (in) hidden, 8 NC (in) hidden

## REF02HP
designator *  value REF02HP
ki_keywords: Precision Voltage Reference 5V; ki_description: 5V ±25mV Precision Voltage Reference, PDIP-8; ki_fp_filters: DIP*W7.62mm*; Footprint: Package_DIP:DIP-8_W7.62mm; Supplier: https://www.analog.com/media/en/technical-documentation/data-sheets/REF01_02_03.pdf
footprint DIP-8_W7.62mm
pins: 1 NC (in) hidden, 2 VIN (power), 3 TEMP, 4 GND (power), 5 TRIM, 6 VOUT (power), 7 NC (in) hidden, 8 NC (in) hidden

## REF02HS
designator *  value REF02HS
ki_keywords: Precision Voltage Reference 5V; ki_description: 5V ±25mV Precision Voltage Reference, SO-8; ki_fp_filters: SOIC*3.9x4.9mm*P1.27mm*; Footprint: Package_SO:SOIC-8_3.9x4.9mm_P1.27mm; Supplier: https://www.analog.com/media/en/technical-documentation/data-sheets/REF01_02_03.pdf
footprint SOIC-8_3.9x4.9mm_P1.27mm
pins: 1 NC (in) hidden, 2 VIN (power), 3 TEMP, 4 GND (power), 5 TRIM, 6 VOUT (power), 7 NC (in) hidden, 8 NC (in) hidden

## REF02HZ
designator *  value REF02HZ
ki_keywords: Precision Voltage Reference 5V; ki_description: 5V ±25mV Precision Voltage Reference, CERDIP-8; ki_fp_filters: DIP*W7.62mm*; Footprint: Package_DIP:DIP-8_W7.62mm; Supplier: https://www.analog.com/media/en/technical-documentation/data-sheets/REF01_02_03.pdf
footprint DIP-8_W7.62mm
pins: 1 NC (in) hidden, 2 VIN (power), 3 TEMP, 4 GND (power), 5 TRIM, 6 VOUT (power), 7 NC (in) hidden, 8 NC (in) hidden

## REF02Z
designator *  value REF02Z
ki_keywords: Precision Voltage Reference 5V; ki_description: 5V ±25mV Precision Voltage Reference, CERDIP-8; ki_fp_filters: DIP*W7.62mm*; Footprint: Package_DIP:DIP-8_W7.62mm; Supplier: https://www.analog.com/media/en/technical-documentation/data-sheets/REF01_02_03.pdf
footprint DIP-8_W7.62mm
pins: 1 NC (in) hidden, 2 VIN (power), 3 TEMP, 4 GND (power), 5 TRIM, 6 VOUT (power), 7 NC (in) hidden, 8 NC (in) hidden

## REF03GP
designator *  value REF03GP
ki_keywords: Precision Voltage Reference 2.5V; ki_description: 2.5V ±15mV Precision Voltage Reference, PDIP-8; ki_fp_filters: DIP*W7.62mm*; Footprint: Package_DIP:DIP-8_W7.62mm; Supplier: https://www.analog.com/media/en/technical-documentation/data-sheets/REF01_02_03.pdf
footprint DIP-8_W7.62mm
pins: 1 NC (in) hidden, 2 VIN (power), 3 TEMP, 4 GND (power), 5 TRIM, 6 VOUT (power), 7 NC (in) hidden, 8 NC (in) hidden

## REF03GS
designator *  value REF03GS
ki_keywords: Precision Voltage Reference 2.5V; ki_description: 2.5V ±15mV Precision Voltage Reference, SO-8; ki_fp_filters: SOIC*3.9x4.9mm*P1.27mm*; Footprint: Package_SO:SOIC-8_3.9x4.9mm_P1.27mm; Supplier: https://www.analog.com/media/en/technical-documentation/data-sheets/REF01_02_03.pdf
footprint SOIC-8_3.9x4.9mm_P1.27mm
pins: 1 NC (in) hidden, 2 VIN (power), 3 TEMP, 4 GND (power), 5 TRIM, 6 VOUT (power), 7 NC (in) hidden, 8 NC (in) hidden

## REF102AP
designator *  value REF102AP
ki_keywords: Precision Voltage Reference 10V; ki_description: 10V ±10mV Precision Voltage Reference, PDIP-8; ki_fp_filters: DIP*W7.62mm*; Footprint: Package_DIP:DIP-8_W7.62mm; Supplier: http://www.ti.com/lit/ds/symlink/ref102.pdf
footprint DIP-8_W7.62mm
pins: 1 NC (in) hidden, 2 Vin (power), 3 TEMP, 4 GND (power), 5 TRIM, 6 Vout (power), 7 NC (in) hidden, 8 NR

## REF102AU
designator *  value REF102AU
ki_keywords: Precision Voltage Reference 10V; ki_description: 10V ±10mV Precision Voltage Reference, SO-8; ki_fp_filters: SOIC*3.9x4.9mm*P1.27mm*; Footprint: Package_SO:SOIC-8_3.9x4.9mm_P1.27mm; Supplier: http://www.ti.com/lit/ds/symlink/ref02.pdf
footprint SOIC-8_3.9x4.9mm_P1.27mm
pins: 1 NC (in) hidden, 2 Vin (power), 3 TEMP, 4 GND (power), 5 TRIM, 6 Vout (power), 7 NC (in) hidden, 8 NR

## REF102BP
designator *  value REF102BP
ki_keywords: Precision Voltage Reference 10V; ki_description: 10V ±5mV Precision Voltage Reference, PDIP-8; ki_fp_filters: DIP*W7.62mm*; Footprint: Package_DIP:DIP-8_W7.62mm; Supplier: http://www.ti.com/lit/ds/symlink/ref102.pdf
footprint DIP-8_W7.62mm
pins: 1 NC (in) hidden, 2 Vin (power), 3 TEMP, 4 GND (power), 5 TRIM, 6 Vout (power), 7 NC (in) hidden, 8 NR

## REF102BU
designator *  value REF102BU
ki_keywords: Precision Voltage Reference 10V; ki_description: 10V ±5mV Precision Voltage Reference, SO-8; ki_fp_filters: SOIC*3.9x4.9mm*P1.27mm*; Footprint: Package_SO:SOIC-8_3.9x4.9mm_P1.27mm; Supplier: http://www.ti.com/lit/ds/symlink/ref02.pdf
footprint SOIC-8_3.9x4.9mm_P1.27mm
pins: 1 NC (in) hidden, 2 Vin (power), 3 TEMP, 4 GND (power), 5 TRIM, 6 Vout (power), 7 NC (in) hidden, 8 NR

## REF102CP
designator *  value REF102CP
ki_keywords: Precision Voltage Reference 10V; ki_description: 10V ±2.5mV Precision Voltage Reference, PDIP-8; ki_fp_filters: DIP*W7.62mm*; Footprint: Package_DIP:DIP-8_W7.62mm; Supplier: http://www.ti.com/lit/ds/symlink/ref102.pdf
footprint DIP-8_W7.62mm
pins: 1 NC (in) hidden, 2 Vin (power), 3 TEMP, 4 GND (power), 5 TRIM, 6 Vout (power), 7 NC (in) hidden, 8 NR

## REF102CU
designator *  value REF102CU
ki_keywords: Precision Voltage Reference 10V; ki_description: 10V ±2.5mV Precision Voltage Reference, SO-8; ki_fp_filters: SOIC*3.9x4.9mm*P1.27mm*; Footprint: Package_SO:SOIC-8_3.9x4.9mm_P1.27mm; Supplier: http://www.ti.com/lit/ds/symlink/ref02.pdf
footprint SOIC-8_3.9x4.9mm_P1.27mm
pins: 1 NC (in) hidden, 2 Vin (power), 3 TEMP, 4 GND (power), 5 TRIM, 6 Vout (power), 7 NC (in) hidden, 8 NR

## REF191
designator *  value REF191
ki_keywords: Precision voltage references; ki_description: Precision voltage references 2.048V, DIP-8/SO-8/TSSOP-8; ki_fp_filters: DIP*W7.62mm* SOIC*3.9x4.9m*P1.27mm* TSSOP*4.4x3mm*P0.65mm*; Supplier: https://www.analog.com/static/imported-files/data_sheets/REF19xSeries.pdf
pins: 1 TP (in) hidden, 2 Vin (power), 3 ~{{Sleep}} (in), 4 GND (power), 5 TP (in) hidden, 6 Vout (power), 7 NC (in) hidden, 8 NC (in) hidden

## REF192
designator *  value REF192
ki_keywords: Precision voltage references; ki_description: Precision voltage references 2.5V, DIP-8/SO-8/TSSOP-8; ki_fp_filters: DIP*W7.62mm* SOIC*3.9x4.9m*P1.27mm* TSSOP*4.4x3mm*P0.65mm*; Supplier: https://www.analog.com/static/imported-files/data_sheets/REF19xSeries.pdf
pins: 1 TP (in) hidden, 2 Vin (power), 3 ~{{Sleep}} (in), 4 GND (power), 5 TP (in) hidden, 6 Vout (power), 7 NC (in) hidden, 8 NC (in) hidden

## REF193
designator *  value REF193
ki_keywords: Precision voltage references; ki_description: Precision voltage references 3V, DIP-8/SO-8/TSSOP-8; ki_fp_filters: DIP*W7.62mm* SOIC*3.9x4.9m*P1.27mm* TSSOP*4.4x3mm*P0.65mm*; Supplier: https://www.analog.com/static/imported-files/data_sheets/REF19xSeries.pdf
pins: 1 TP (in) hidden, 2 Vin (power), 3 ~{{Sleep}} (in), 4 GND (power), 5 TP (in) hidden, 6 Vout (power), 7 NC (in) hidden, 8 NC (in) hidden

## REF194
designator *  value REF194
ki_keywords: Precision voltage references; ki_description: Precision voltage references 4.5V, DIP-8/SO-8/TSSOP-8; ki_fp_filters: DIP*W7.62mm* SOIC*3.9x4.9m*P1.27mm* TSSOP*4.4x3mm*P0.65mm*; Supplier: https://www.analog.com/static/imported-files/data_sheets/REF19xSeries.pdf
pins: 1 TP (in) hidden, 2 Vin (power), 3 ~{{Sleep}} (in), 4 GND (power), 5 TP (in) hidden, 6 Vout (power), 7 NC (in) hidden, 8 NC (in) hidden

## REF195
designator *  value REF195
ki_keywords: Precision voltage references; ki_description: Precision voltage references 5V, DIP-8/SO-8/TSSOP-8; ki_fp_filters: DIP*W7.62mm* SOIC*3.9x4.9m*P1.27mm* TSSOP*4.4x3mm*P0.65mm*; Supplier: https://www.analog.com/static/imported-files/data_sheets/REF19xSeries.pdf
pins: 1 TP (in) hidden, 2 Vin (power), 3 ~{{Sleep}} (in), 4 GND (power), 5 TP (in) hidden, 6 Vout (power), 7 NC (in) hidden, 8 NC (in) hidden

## REF196
designator *  value REF196
ki_keywords: Precision voltage references; ki_description: Precision voltage references 3.3V, DIP-8/SO-8/TSSOP-8; ki_fp_filters: DIP*W7.62mm* SOIC*3.9x4.9m*P1.27mm* TSSOP*4.4x3mm*P0.65mm*; Supplier: https://www.analog.com/static/imported-files/data_sheets/REF19xSeries.pdf
pins: 1 TP (in) hidden, 2 Vin (power), 3 ~{{Sleep}} (in), 4 GND (power), 5 TP (in) hidden, 6 Vout (power), 7 NC (in) hidden, 8 NC (in) hidden

## REF198
designator *  value REF198
ki_keywords: Precision voltage references; ki_description: Precision voltage references 4.096V, DIP-8/SO-8/TSSOP-8; ki_fp_filters: DIP*W7.62mm* SOIC*3.9x4.9m*P1.27mm* TSSOP*4.4x3mm*P0.65mm*; Supplier: https://www.analog.com/static/imported-files/data_sheets/REF19xSeries.pdf
pins: 1 TP (in) hidden, 2 Vin (power), 3 ~{{Sleep}} (in), 4 GND (power), 5 TP (in) hidden, 6 Vout (power), 7 NC (in) hidden, 8 NC (in) hidden

## REF3012
designator *  value REF3012
ki_keywords: voltage reference; ki_description: 1.25V 50-ppm/°C Max, 50-μA, CMOS Voltage Reference, SOT-23-3; ki_fp_filters: SOT?23*; Footprint: Package_TO_SOT_SMD:SOT-23; Supplier: http://www.ti.com/lit/ds/symlink/ref3033.pdf
footprint SOT-23
pins: 1 IN (power), 2 OUT (power), 3 GND (power)

## REF3020
designator *  value REF3020
ki_keywords: voltage reference; ki_description: 2.048V 50-ppm/°C Max, 50-μA, CMOS Voltage Reference, SOT-23-3; ki_fp_filters: SOT?23*; Footprint: Package_TO_SOT_SMD:SOT-23; Supplier: http://www.ti.com/lit/ds/symlink/ref3033.pdf
footprint SOT-23
pins: 1 IN (power), 2 OUT (power), 3 GND (power)

## REF3025
designator *  value REF3025
ki_keywords: voltage reference; ki_description: 2.500V 50-ppm/°C Max, 50-μA, CMOS Voltage Reference, SOT-23-3; ki_fp_filters: SOT?23*; Footprint: Package_TO_SOT_SMD:SOT-23; Supplier: http://www.ti.com/lit/ds/symlink/ref3033.pdf
footprint SOT-23
pins: 1 IN (power), 2 OUT (power), 3 GND (power)

## REF3030
designator *  value REF3030
ki_keywords: voltage reference; ki_description: 3.0V 50-ppm/°C Max, 50-μA, CMOS Voltage Reference, SOT-23-3; ki_fp_filters: SOT?23*; Footprint: Package_TO_SOT_SMD:SOT-23; Supplier: http://www.ti.com/lit/ds/symlink/ref3033.pdf
footprint SOT-23
pins: 1 IN (power), 2 OUT (power), 3 GND (power)

## REF3033
designator *  value REF3033
ki_keywords: voltage reference; ki_description: 3.3V 50-ppm/°C Max, 50-μA, CMOS Voltage Reference, SOT-23-3; ki_fp_filters: SOT?23*; Footprint: Package_TO_SOT_SMD:SOT-23; Supplier: http://www.ti.com/lit/ds/symlink/ref3033.pdf
footprint SOT-23
pins: 1 IN (power), 2 OUT (power), 3 GND (power)

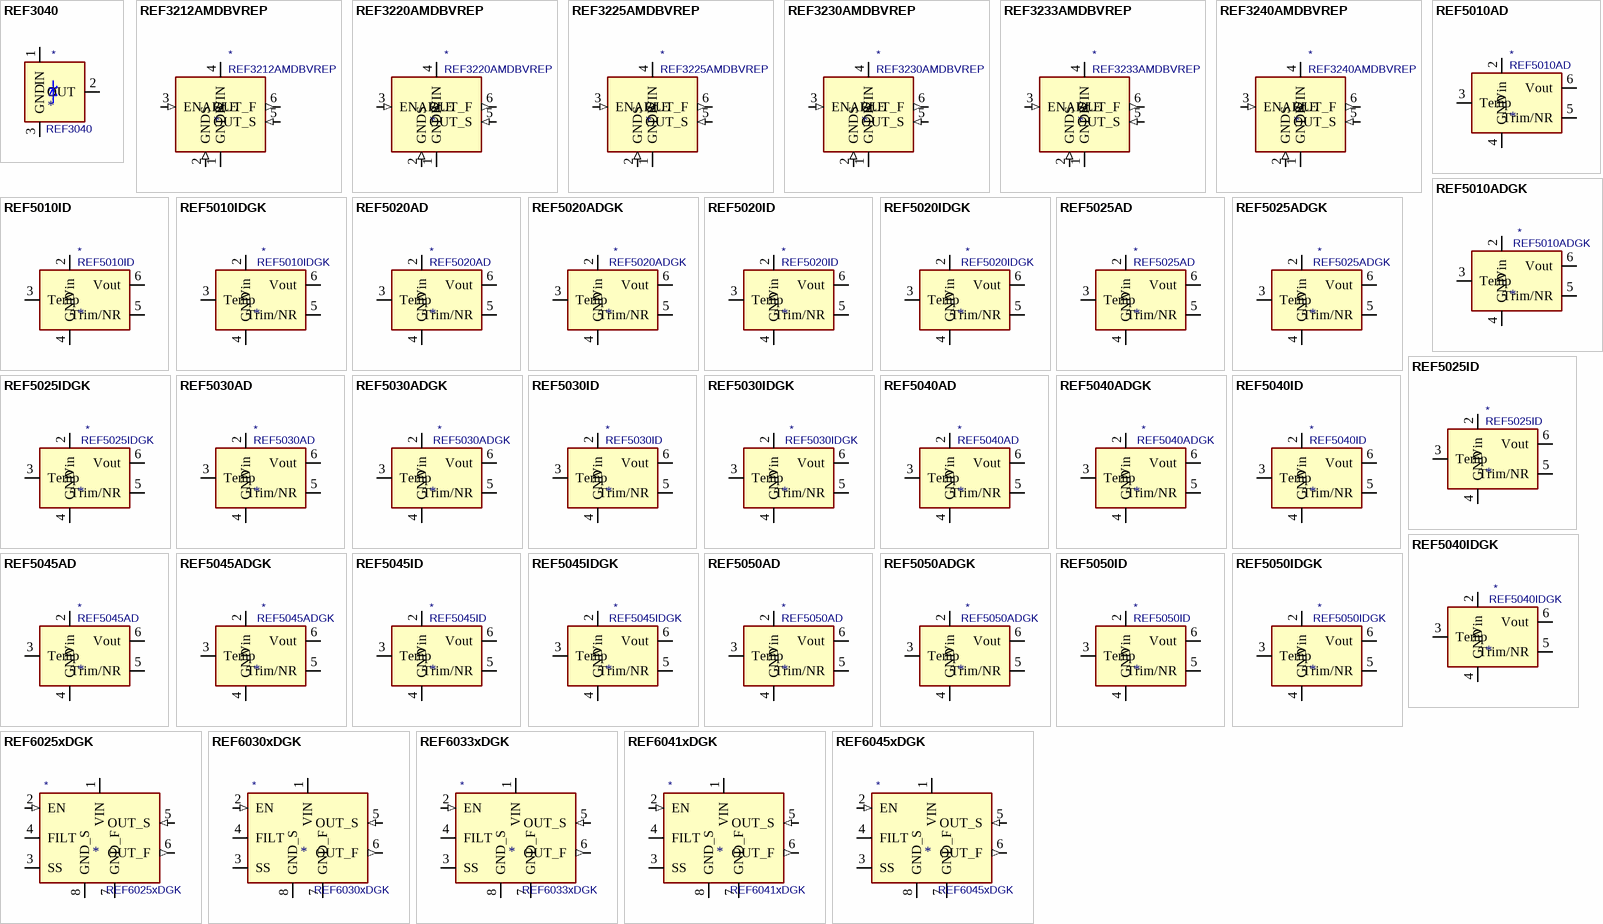
[diagram p5: symbols REF3040 to REF6045xDGK]

## REF3040
designator *  value REF3040
ki_keywords: voltage reference; ki_description: 4.096V 50-ppm/°C Max, 50-μA, CMOS Voltage Reference, SOT-23-3; ki_fp_filters: SOT?23*; Footprint: Package_TO_SOT_SMD:SOT-23; Supplier: http://www.ti.com/lit/ds/symlink/ref3033.pdf
footprint SOT-23
pins: 1 IN (power), 2 OUT (power), 3 GND (power)

## REF3212AMDBVREP
designator *  value REF3212AMDBVREP
ki_keywords: Micropower Precision Voltage Reference 1.25V; ki_description: 1.25V 100μA Micropower Precision Voltage Reference, SOT-23-6; ki_fp_filters: SOT?23*; Footprint: Package_TO_SOT_SMD:SOT-23-6; Supplier: http://www.ti.com/lit/ds/symlink/ref3240-ep.pdf
footprint SOT-23-6
pins: 1 GNDF (power), 2 GNDS (in), 3 ENABLE (in), 4 VIN (power), 5 OUT_S (in), 6 OUT_F (out)

## REF3220AMDBVREP
designator *  value REF3220AMDBVREP
ki_keywords: Micropower Precision Voltage Reference 2.048V; ki_description: 2.048V 100μA Micropower Precision Voltage Reference, SOT-23-6; ki_fp_filters: SOT?23*; Footprint: Package_TO_SOT_SMD:SOT-23-6; Supplier: http://www.ti.com/lit/ds/symlink/ref3240-ep.pdf
footprint SOT-23-6
pins: 1 GNDF (power), 2 GNDS (in), 3 ENABLE (in), 4 VIN (power), 5 OUT_S (in), 6 OUT_F (out)

## REF3225AMDBVREP
designator *  value REF3225AMDBVREP
ki_keywords: Micropower Precision Voltage Reference 2.5V; ki_description: 2.5V 100μA Micropower Precision Voltage Reference, SOT-23-6; ki_fp_filters: SOT?23*; Footprint: Package_TO_SOT_SMD:SOT-23-6; Supplier: http://www.ti.com/lit/ds/symlink/ref3240-ep.pdf
footprint SOT-23-6
pins: 1 GNDF (power), 2 GNDS (in), 3 ENABLE (in), 4 VIN (power), 5 OUT_S (in), 6 OUT_F (out)

## REF3230AMDBVREP
designator *  value REF3230AMDBVREP
ki_keywords: Micropower Precision Voltage Reference 3V; ki_description: 3V 100μA Micropower Precision Voltage Reference, SOT-23-6; ki_fp_filters: SOT?23*; Footprint: Package_TO_SOT_SMD:SOT-23-6; Supplier: http://www.ti.com/lit/ds/symlink/ref3240-ep.pdf
footprint SOT-23-6
pins: 1 GNDF (power), 2 GNDS (in), 3 ENABLE (in), 4 VIN (power), 5 OUT_S (in), 6 OUT_F (out)

## REF3233AMDBVREP
designator *  value REF3233AMDBVREP
ki_keywords: Micropower Precision Voltage Reference 3.3V; ki_description: 3.3V 100μA Micropower Precision Voltage Reference, SOT-23-6; ki_fp_filters: SOT?23*; Footprint: Package_TO_SOT_SMD:SOT-23-6; Supplier: http://www.ti.com/lit/ds/symlink/ref3240-ep.pdf
footprint SOT-23-6
pins: 1 GNDF (power), 2 GNDS (in), 3 ENABLE (in), 4 VIN (power), 5 OUT_S (in), 6 OUT_F (out)

## REF3240AMDBVREP
designator *  value REF3240AMDBVREP
ki_keywords: Micropower Precision Voltage Reference 4.096V; ki_description: 4.096V 100μA Micropower Precision Voltage Reference, SOT-23-6; ki_fp_filters: SOT?23*; Footprint: Package_TO_SOT_SMD:SOT-23-6; Supplier: http://www.ti.com/lit/ds/symlink/ref3240-ep.pdf
footprint SOT-23-6
pins: 1 GNDF (power), 2 GNDS (in), 3 ENABLE (in), 4 VIN (power), 5 OUT_S (in), 6 OUT_F (out)

## REF5010AD
designator *  value REF5010AD
ki_keywords: Low Noise Precision Voltage Reference 10V; ki_description: 10V 0.1% 10mA Low Noise Precision Voltage Reference, SO-8; ki_fp_filters: SOIC*3.9x4.9mm*P1.27mm*; Footprint: Package_SO:SOIC-8_3.9x4.9mm_P1.27mm; Supplier: http://www.ti.com/lit/ds/symlink/ref5030.pdf
footprint SOIC-8_3.9x4.9mm_P1.27mm
pins: 1 DNC (in) hidden, 2 Vin (power), 3 Temp, 4 GND (power), 5 Trim/NR, 6 Vout (power), 7 NC (in) hidden, 8 DNC (in) hidden

## REF5010ADGK
designator *  value REF5010ADGK
ki_keywords: Low Noise Precision Voltage Reference 10V; ki_description: 10V 0.1% 10mA Low Noise Precision Voltage Reference, MSOP-8; ki_fp_filters: MSOP*3x3mm*P0.65mm*; Footprint: Package_SO:MSOP-8_3x3mm_P0.65mm; Supplier: http://www.ti.com/lit/ds/symlink/ref5030.pdf
footprint MSOP-8_3x3mm_P0.65mm
pins: 1 DNC (in) hidden, 2 Vin (power), 3 Temp, 4 GND (power), 5 Trim/NR, 6 Vout (power), 7 NC (in) hidden, 8 DNC (in) hidden

## REF5010ID
designator *  value REF5010ID
ki_keywords: Low Noise Precision Voltage Reference 10V; ki_description: 10V 0.05% 10mA Low Noise Precision Voltage Reference, SO-8; ki_fp_filters: SOIC*3.9x4.9mm*P1.27mm*; Footprint: Package_SO:SOIC-8_3.9x4.9mm_P1.27mm; Supplier: http://www.ti.com/lit/ds/symlink/ref5030.pdf
footprint SOIC-8_3.9x4.9mm_P1.27mm
pins: 1 DNC (in) hidden, 2 Vin (power), 3 Temp, 4 GND (power), 5 Trim/NR, 6 Vout (power), 7 NC (in) hidden, 8 DNC (in) hidden

## REF5010IDGK
designator *  value REF5010IDGK
ki_keywords: Low Noise Precision Voltage Reference 10V; ki_description: 10V 0.05% 10mA Low Noise Precision Voltage Reference, MSOP-8; ki_fp_filters: MSOP*3x3mm*P0.65mm*; Footprint: Package_SO:MSOP-8_3x3mm_P0.65mm; Supplier: http://www.ti.com/lit/ds/symlink/ref5030.pdf
footprint MSOP-8_3x3mm_P0.65mm
pins: 1 DNC (in) hidden, 2 Vin (power), 3 Temp, 4 GND (power), 5 Trim/NR, 6 Vout (power), 7 NC (in) hidden, 8 DNC (in) hidden

## REF5020AD
designator *  value REF5020AD
ki_keywords: Low Noise Precision Voltage Reference 2.048V; ki_description: 2.048V 0.1% 10mA Low Noise Precision Voltage Reference, SO-8; ki_fp_filters: SOIC*3.9x4.9mm*P1.27mm*; Footprint: Package_SO:SOIC-8_3.9x4.9mm_P1.27mm; Supplier: http://www.ti.com/lit/ds/symlink/ref5030.pdf
footprint SOIC-8_3.9x4.9mm_P1.27mm
pins: 1 DNC (in) hidden, 2 Vin (power), 3 Temp, 4 GND (power), 5 Trim/NR, 6 Vout (power), 7 NC (in) hidden, 8 DNC (in) hidden

## REF5020ADGK
designator *  value REF5020ADGK
ki_keywords: Low Noise Precision Voltage Reference 2.048V; ki_description: 2.048V 0.1% 10mA Low Noise Precision Voltage Reference, MSOP-8; ki_fp_filters: MSOP*3x3mm*P0.65mm*; Footprint: Package_SO:MSOP-8_3x3mm_P0.65mm; Supplier: http://www.ti.com/lit/ds/symlink/ref5030.pdf
footprint MSOP-8_3x3mm_P0.65mm
pins: 1 DNC (in) hidden, 2 Vin (power), 3 Temp, 4 GND (power), 5 Trim/NR, 6 Vout (power), 7 NC (in) hidden, 8 DNC (in) hidden

## REF5020ID
designator *  value REF5020ID
ki_keywords: Low Noise Precision Voltage Reference 2.048V; ki_description: 2.048V 0.05% 10mA Low Noise Precision Voltage Reference, SO-8; ki_fp_filters: SOIC*3.9x4.9mm*P1.27mm*; Footprint: Package_SO:SOIC-8_3.9x4.9mm_P1.27mm; Supplier: http://www.ti.com/lit/ds/symlink/ref5030.pdf
footprint SOIC-8_3.9x4.9mm_P1.27mm
pins: 1 DNC (in) hidden, 2 Vin (power), 3 Temp, 4 GND (power), 5 Trim/NR, 6 Vout (power), 7 NC (in) hidden, 8 DNC (in) hidden

## REF5020IDGK
designator *  value REF5020IDGK
ki_keywords: Low Noise Precision Voltage Reference 2.048V; ki_description: 2.048V 0.05% 10mA Low Noise Precision Voltage Reference, MSOP-8; ki_fp_filters: MSOP*3x3mm*P0.65mm*; Footprint: Package_SO:MSOP-8_3x3mm_P0.65mm; Supplier: http://www.ti.com/lit/ds/symlink/ref5030.pdf
footprint MSOP-8_3x3mm_P0.65mm
pins: 1 DNC (in) hidden, 2 Vin (power), 3 Temp, 4 GND (power), 5 Trim/NR, 6 Vout (power), 7 NC (in) hidden, 8 DNC (in) hidden

## REF5025AD
designator *  value REF5025AD
ki_keywords: Low Noise Precision Voltage Reference 2.5V; ki_description: 2.5V 0.1% 10mA Low Noise Precision Voltage Reference, SO-8; ki_fp_filters: SOIC*3.9x4.9mm*P1.27mm*; Footprint: Package_SO:SOIC-8_3.9x4.9mm_P1.27mm; Supplier: http://www.ti.com/lit/ds/symlink/ref5030.pdf
footprint SOIC-8_3.9x4.9mm_P1.27mm
pins: 1 DNC (in) hidden, 2 Vin (power), 3 Temp, 4 GND (power), 5 Trim/NR, 6 Vout (power), 7 NC (in) hidden, 8 DNC (in) hidden

## REF5025ADGK
designator *  value REF5025ADGK
ki_keywords: Low Noise Precision Voltage Reference 2.5V; ki_description: 2.5V 0.1% 10mA Low Noise Precision Voltage Reference, MSOP-8; ki_fp_filters: MSOP*3x3mm*P0.65mm*; Footprint: Package_SO:MSOP-8_3x3mm_P0.65mm; Supplier: http://www.ti.com/lit/ds/symlink/ref5030.pdf
footprint MSOP-8_3x3mm_P0.65mm
pins: 1 DNC (in) hidden, 2 Vin (power), 3 Temp, 4 GND (power), 5 Trim/NR, 6 Vout (power), 7 NC (in) hidden, 8 DNC (in) hidden

## REF5025ID
designator *  value REF5025ID
ki_keywords: Low Noise Precision Voltage Reference 2.5V; ki_description: 2.5V 0.05% 10mA Low Noise Precision Voltage Reference, SO-8; ki_fp_filters: SOIC*3.9x4.9mm*P1.27mm*; Footprint: Package_SO:SOIC-8_3.9x4.9mm_P1.27mm; Supplier: http://www.ti.com/lit/ds/symlink/ref5030.pdf
footprint SOIC-8_3.9x4.9mm_P1.27mm
pins: 1 DNC (in) hidden, 2 Vin (power), 3 Temp, 4 GND (power), 5 Trim/NR, 6 Vout (power), 7 NC (in) hidden, 8 DNC (in) hidden

## REF5025IDGK
designator *  value REF5025IDGK
ki_keywords: Low Noise Precision Voltage Reference 2.5V; ki_description: 2.5V 0.05% 10mA Low Noise Precision Voltage Reference, MSOP-8; ki_fp_filters: MSOP*3x3mm*P0.65mm*; Footprint: Package_SO:MSOP-8_3x3mm_P0.65mm; Supplier: http://www.ti.com/lit/ds/symlink/ref5030.pdf
footprint MSOP-8_3x3mm_P0.65mm
pins: 1 DNC (in) hidden, 2 Vin (power), 3 Temp, 4 GND (power), 5 Trim/NR, 6 Vout (power), 7 NC (in) hidden, 8 DNC (in) hidden

## REF5030AD
designator *  value REF5030AD
ki_keywords: Low Noise Precision Voltage Reference 3V; ki_description: 3V 0.1% 10mA Low Noise Precision Voltage Reference, SO-8; ki_fp_filters: SOIC*3.9x4.9mm*P1.27mm*; Footprint: Package_SO:SOIC-8_3.9x4.9mm_P1.27mm; Supplier: http://www.ti.com/lit/ds/symlink/ref5030.pdf
footprint SOIC-8_3.9x4.9mm_P1.27mm
pins: 1 DNC (in) hidden, 2 Vin (power), 3 Temp, 4 GND (power), 5 Trim/NR, 6 Vout (power), 7 NC (in) hidden, 8 DNC (in) hidden

## REF5030ADGK
designator *  value REF5030ADGK
ki_keywords: Low Noise Precision Voltage Reference 3V; ki_description: 3V 0.1% 10mA Low Noise Precision Voltage Reference, MSOP-8; ki_fp_filters: MSOP*3x3mm*P0.65mm*; Footprint: Package_SO:MSOP-8_3x3mm_P0.65mm; Supplier: http://www.ti.com/lit/ds/symlink/ref5030.pdf
footprint MSOP-8_3x3mm_P0.65mm
pins: 1 DNC (in) hidden, 2 Vin (power), 3 Temp, 4 GND (power), 5 Trim/NR, 6 Vout (power), 7 NC (in) hidden, 8 DNC (in) hidden

## REF5030ID
designator *  value REF5030ID
ki_keywords: Low Noise Precision Voltage Reference 3V; ki_description: 3V 0.05% 10mA Low Noise Precision Voltage Reference, SO-8; ki_fp_filters: SOIC*3.9x4.9mm*P1.27mm*; Footprint: Package_SO:SOIC-8_3.9x4.9mm_P1.27mm; Supplier: http://www.ti.com/lit/ds/symlink/ref5030.pdf
footprint SOIC-8_3.9x4.9mm_P1.27mm
pins: 1 DNC (in) hidden, 2 Vin (power), 3 Temp, 4 GND (power), 5 Trim/NR, 6 Vout (power), 7 NC (in) hidden, 8 DNC (in) hidden

## REF5030IDGK
designator *  value REF5030IDGK
ki_keywords: Low Noise Precision Voltage Reference 3V; ki_description: 3V 0.05% 10mA Low Noise Precision Voltage Reference, MSOP-8; ki_fp_filters: MSOP*3x3mm*P0.65mm*; Footprint: Package_SO:MSOP-8_3x3mm_P0.65mm; Supplier: http://www.ti.com/lit/ds/symlink/ref5030.pdf
footprint MSOP-8_3x3mm_P0.65mm
pins: 1 DNC (in) hidden, 2 Vin (power), 3 Temp, 4 GND (power), 5 Trim/NR, 6 Vout (power), 7 NC (in) hidden, 8 DNC (in) hidden

## REF5040AD
designator *  value REF5040AD
ki_keywords: Low Noise Precision Voltage Reference 4.096V; ki_description: 4.096V 0.1% 10mA Low Noise Precision Voltage Reference, SO-8; ki_fp_filters: SOIC*3.9x4.9mm*P1.27mm*; Footprint: Package_SO:SOIC-8_3.9x4.9mm_P1.27mm; Supplier: http://www.ti.com/lit/ds/symlink/ref5030.pdf
footprint SOIC-8_3.9x4.9mm_P1.27mm
pins: 1 DNC (in) hidden, 2 Vin (power), 3 Temp, 4 GND (power), 5 Trim/NR, 6 Vout (power), 7 NC (in) hidden, 8 DNC (in) hidden

## REF5040ADGK
designator *  value REF5040ADGK
ki_keywords: Low Noise Precision Voltage Reference 4.096V; ki_description: 4.096V 0.1% 10mA Low Noise Precision Voltage Reference, MSOP-8; ki_fp_filters: MSOP*3x3mm*P0.65mm*; Footprint: Package_SO:MSOP-8_3x3mm_P0.65mm; Supplier: http://www.ti.com/lit/ds/symlink/ref5030.pdf
footprint MSOP-8_3x3mm_P0.65mm
pins: 1 DNC (in) hidden, 2 Vin (power), 3 Temp, 4 GND (power), 5 Trim/NR, 6 Vout (power), 7 NC (in) hidden, 8 DNC (in) hidden

## REF5040ID
designator *  value REF5040ID
ki_keywords: Low Noise Precision Voltage Reference 4.096V; ki_description: 4.096V 0.05% 10mA Low Noise Precision Voltage Reference, SO-8; ki_fp_filters: SOIC*3.9x4.9mm*P1.27mm*; Footprint: Package_SO:SOIC-8_3.9x4.9mm_P1.27mm; Supplier: http://www.ti.com/lit/ds/symlink/ref5030.pdf
footprint SOIC-8_3.9x4.9mm_P1.27mm
pins: 1 DNC (in) hidden, 2 Vin (power), 3 Temp, 4 GND (power), 5 Trim/NR, 6 Vout (power), 7 NC (in) hidden, 8 DNC (in) hidden

## REF5040IDGK
designator *  value REF5040IDGK
ki_keywords: Low Noise Precision Voltage Reference 4.096V; ki_description: 4.096V 0.05% 10mA Low Noise Precision Voltage Reference, MSOP-8; ki_fp_filters: MSOP*3x3mm*P0.65mm*; Footprint: Package_SO:MSOP-8_3x3mm_P0.65mm; Supplier: http://www.ti.com/lit/ds/symlink/ref5030.pdf
footprint MSOP-8_3x3mm_P0.65mm
pins: 1 DNC (in) hidden, 2 Vin (power), 3 Temp, 4 GND (power), 5 Trim/NR, 6 Vout (power), 7 NC (in) hidden, 8 DNC (in) hidden

## REF5045AD
designator *  value REF5045AD
ki_keywords: Low Noise Precision Voltage Reference 4.5V; ki_description: 4.5V 0.1% 10mA Low Noise Precision Voltage Reference, SO-8; ki_fp_filters: SOIC*3.9x4.9mm*P1.27mm*; Footprint: Package_SO:SOIC-8_3.9x4.9mm_P1.27mm; Supplier: http://www.ti.com/lit/ds/symlink/ref5030.pdf
footprint SOIC-8_3.9x4.9mm_P1.27mm
pins: 1 DNC (in) hidden, 2 Vin (power), 3 Temp, 4 GND (power), 5 Trim/NR, 6 Vout (power), 7 NC (in) hidden, 8 DNC (in) hidden

## REF5045ADGK
designator *  value REF5045ADGK
ki_keywords: Low Noise Precision Voltage Reference 4.5V; ki_description: 4.5V 0.1% 10mA Low Noise Precision Voltage Reference, MSOP-8; ki_fp_filters: MSOP*3x3mm*P0.65mm*; Footprint: Package_SO:MSOP-8_3x3mm_P0.65mm; Supplier: http://www.ti.com/lit/ds/symlink/ref5030.pdf
footprint MSOP-8_3x3mm_P0.65mm
pins: 1 DNC (in) hidden, 2 Vin (power), 3 Temp, 4 GND (power), 5 Trim/NR, 6 Vout (power), 7 NC (in) hidden, 8 DNC (in) hidden

## REF5045ID
designator *  value REF5045ID
ki_keywords: Low Noise Precision Voltage Reference 4.5V; ki_description: 4.5V 0.05% 10mA Low Noise Precision Voltage Reference, SO-8; ki_fp_filters: SOIC*3.9x4.9mm*P1.27mm*; Footprint: Package_SO:SOIC-8_3.9x4.9mm_P1.27mm; Supplier: http://www.ti.com/lit/ds/symlink/ref5030.pdf
footprint SOIC-8_3.9x4.9mm_P1.27mm
pins: 1 DNC (in) hidden, 2 Vin (power), 3 Temp, 4 GND (power), 5 Trim/NR, 6 Vout (power), 7 NC (in) hidden, 8 DNC (in) hidden